# Altium schematic symbol library Transistors.SchLib: 2 symbols
Pins are listed as number, name and electrical type; pins without a type are passive.

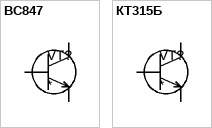
[diagram p0: symbols BC847 to КТ315Б]

## BC847
designator VT?
NPN Transistor
footprint BC847
pins: 1 B (power), 2 E (power), 3 C (power)

## КТ315Б
designator VT?
NPN Transistor
footprint KT-13
footprint SOT-23 (2N7002.215)
pins: 1 E (power), 2 C (power), 3 B (power)